# Altium schematic symbol library -LCD2X16.Schlib: 1 symbol
Pins are listed as number, name and electrical type; pins without a type are passive.

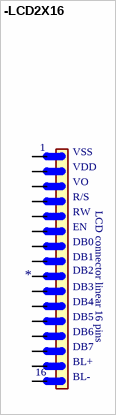
[diagram p0: symbol -LCD2X16]

## -LCD2X16
designator ?
Display; Display: LCD 2x16 characters _blue backlight_; MF: mikroElektronika; MP: LCD2X16; Price: None; Availability: Unavailable; Package: None; SnapEDA_Link: https://www.snapeda.com/parts/LCD2X16/mikroElektronika/view-part/2472530/?ref=snap; Value: *
footprint CON8X2LCD
pins: P$1 VSS, P$2 VDD, P$3 V0, P$4 RW, P$5 R/S, P$6 EN, P$7 DB0, P$8 DB1, P$9 DB2, P$10 DB3, P$11 DB4, P$12 DB5, P$13 DB6, P$14 DB7, P$15 BKL+, P$16 BKL-
text: 1; VO; LCD connector linear 16 pins; BL+; 16; BL-